# EAGLE library part LT1932 (library fietslicht)
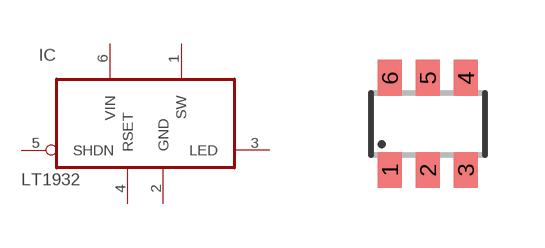
[diagram p1: symbol with the pads of SOT23-6; footprint SOT23-6]

Designator prefix IC

## LT1932ES6  [SOT23-6]
1  SW
2  GND
3  LED
4  RSET
5  SHDN
6  VIN

## Footprint SOT23-6 (pad centres in mm)
Small Outline Transistor 6 lead
smd 0.6 x 0.9: 1 -0.95,-1.15; 2 0,-1.15; 3 0.95,-1.15; 4 0.95,1.15; 5 0,1.15; 6 -0.95,1.15